# EAGLE library part 1X20 (library cTechnologies_connectors)
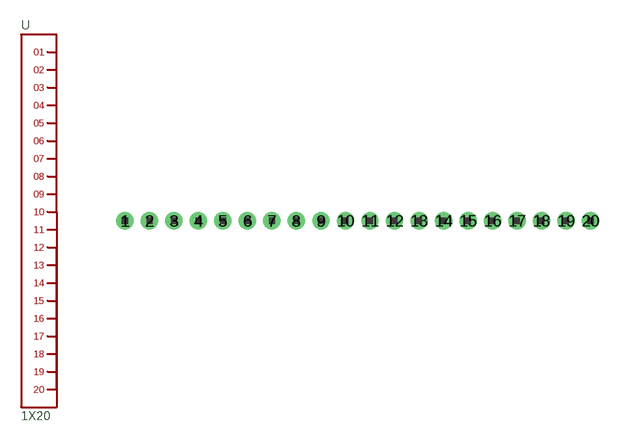
[diagram p8: symbol with the pads of 1X20; footprint 1X20]

Designator prefix -

## 1X20  [1X20]
1  1
2  2
3  3
4  4
5  5
6  6
7  7
8  8
9  9
10  10
11  11
12  12
13  13
14  14
15  15
16  16
17  17
18  18
19  19
20  20

## Footprint 1X20 (pad centres in mm)
drill 0.8 pad 1.422: 1 -19,0; 2 -17,0; 3 -15,0; 4 -13,0; 5 -11,0; 6 -9,0; 7 -7,0; 8 -5,0; 9 -3,0; 10 -1,0; 11 1,0; 12 3,0; 13 5,0; 14 7,0; 15 9,0; 16 11,0; 17 13,0; 18 15,0; 19 17,0; 20 19,0